# EAGLE library part FAIRCHILD_NDS8434 (library Upverter Library)
Single P-Channel Enhancement Mode Field Effect Transistor
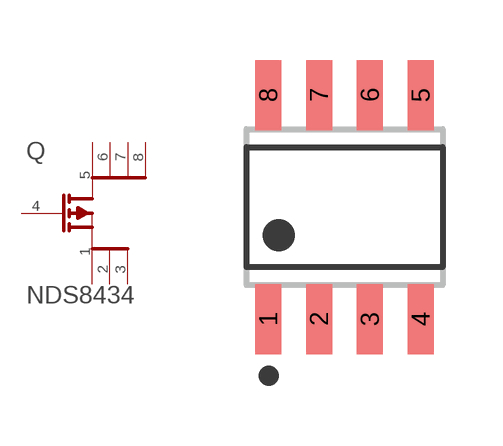
[diagram p0: symbol with the pads of FAIRCHILD_NDS8434_0; footprint FAIRCHILD_NDS8434_0]

Designator prefix Q

## FAIRCHILD_NDS8434FAIRCHILD_NDS8434_0_0 (Land_Pattern_URL: http://www.onsemi.com/pub/Collateral/751EB.PDF; MF: Fairchild; MPN: NDS8434; centroid_not_specified: No; datasheet: http://www.onsemi.com/pub/Collateral/NDS8434-D.pdf; digikey_description: TRANS MOSFET P-CH 20V 6.5A 8-SOIC; digikey_part_number: NDS8434CT-ND; lead_free: yes; mfg_package_ident: CASE 751EB; mouser_part_number: 512-NDS8434; package: SO-8; prefix: Q; rohs: yes; temperature_range_high: +150°C; temperature_range_low: -55°C)  [FAIRCHILD_NDS8434_0]
1  1_S
2  2_S
3  3_S
4  G
5  1_D
6  2_D
7  3_D
8  4_D

## Footprint FAIRCHILD_NDS8434_0 (pad centres in mm)
Single P-Channel Enhancement Mode Field Effect Transistor
smd 0.65 x 1.75: 1 -1.905,-2.8; 2 -0.635,-2.8; 3 0.635,-2.8; 4 1.905,-2.8; 5 1.905,2.8; 6 0.635,2.8; 7 -0.635,2.8; 8 -1.905,2.8